# Altium schematic symbol library blackfin_schlib.SchLib: 59 symbols
Pins are listed as number, name and electrical type; pins without a type are passive.

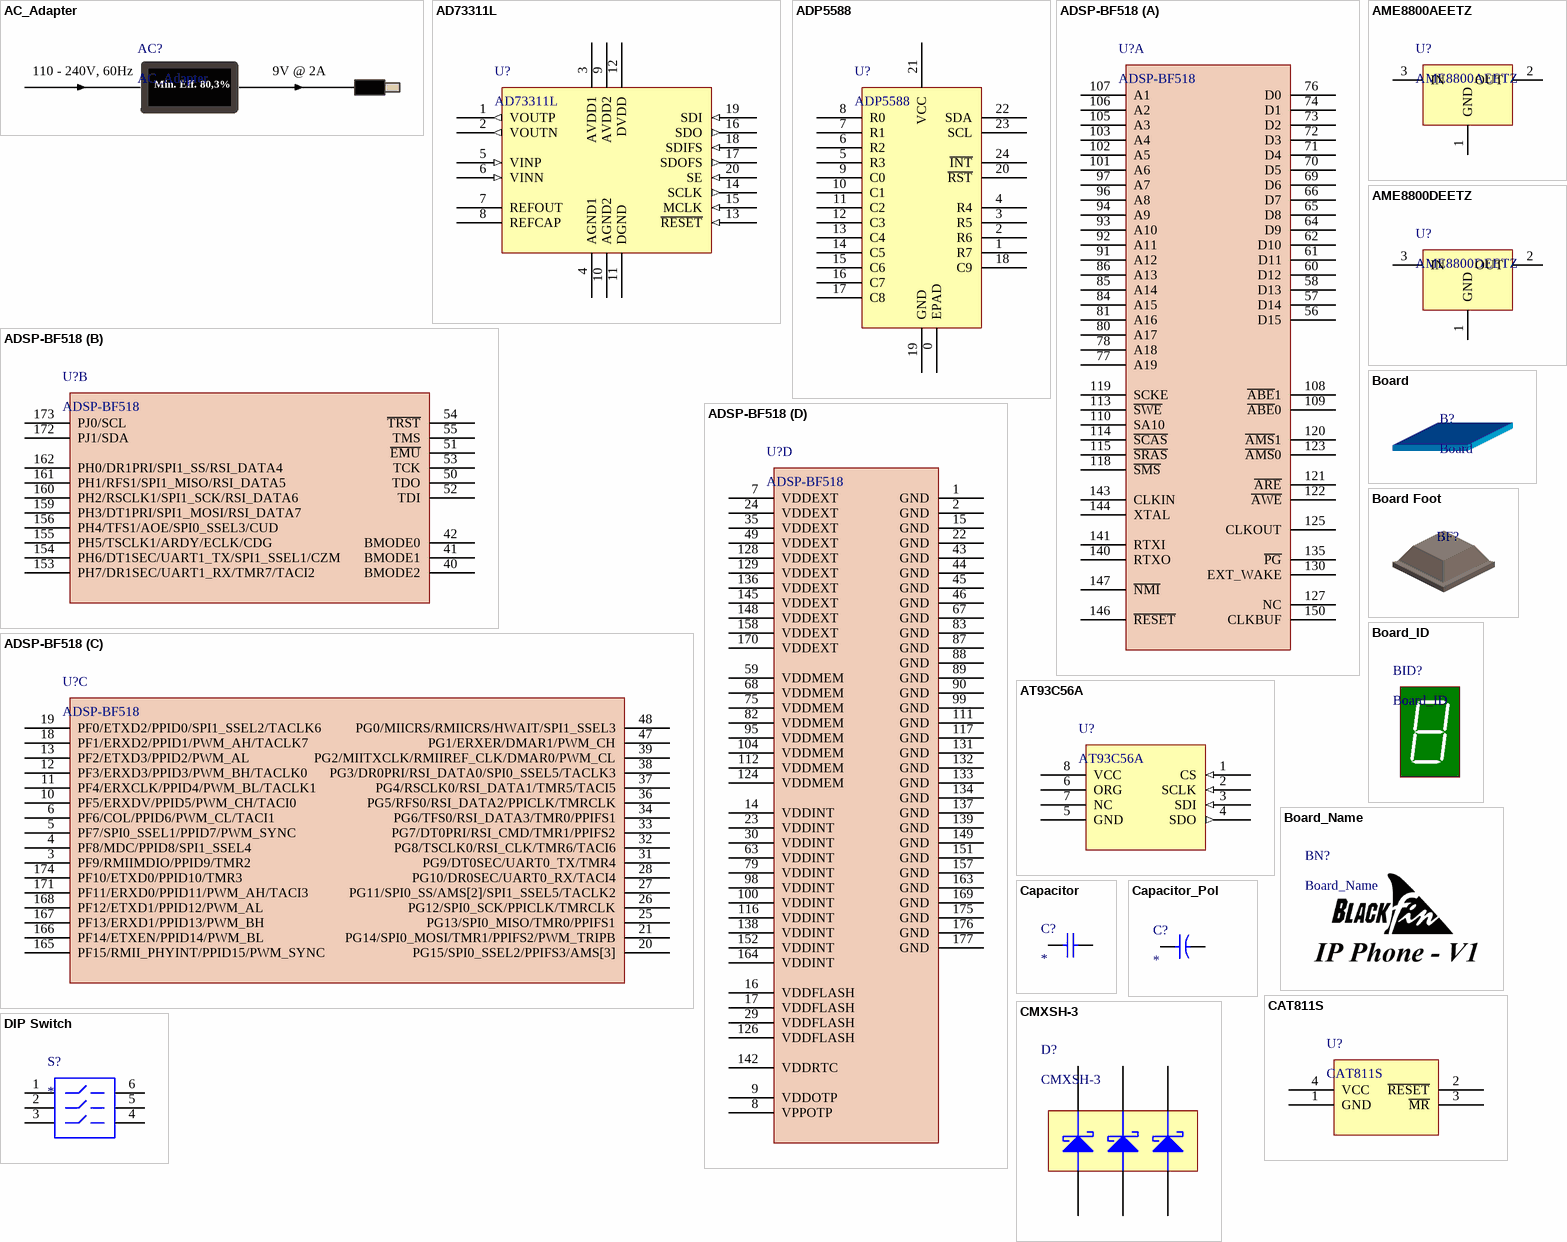
[diagram p0: symbols AC_Adapter to DIP Switch]

## AC_Adapter
designator AC?
eVendorPart#: 552-PSA-A18U-090; Part#: PSAA18U-090-R; Manufacturer: Phihong; eVendor: Mouser; eVendorPrice: 17,73; MSRP: 14,27; MOQ: 1000
text: 110 - 240V, 60Hz; 9V @ 2A; Min. Eff. 80,3%

## AD73311L
designator U?
eVendorPart#: AD73311LARUZ; Manufacturer: Analog Devices; eVendor: Avnet; MSRP: 3,41; eVendorPrice: 3,60; Part#: AD73311LARUZ; MOQ: 1000
footprint TSSOP-20 (AD73311LARUZ)
pins: 1 VOUTP (out), 2 VOUTN (out), 3 AVDD1 (power), 4 AGND1 (power), 5 VINP (in), 6 VINN (in), 7 REFOUT (power), 8 REFCAP (power), 9 AVDD2 (power), 10 AGND2 (power), 11 DGND (power), 12 DVDD (power), 13 ~{RESET} (in), 14 SCLK (out), 15 MCLK (in), 16 SDO (out), 17 SDOFS (out), 18 SDIFS (in), 19 SDI (in), 20 SE (in)

## ADP5588
designator U?
eVendorPart#: ADP5588ACPZ-R7CT-ND; Part#: ADP5588ACPZ-R7; Manufacturer: Analog Devices; eVendor: Digikey; MSRP: 1,56; eVendorPrice: 2,70; MOQ: 1000
footprint QFN-24 (ADP5588)
pins: 0 EPAD, 1 R7, 2 R6, 3 R5, 4 R4, 5 R3, 6 R2, 7 R1, 8 R0, 9 C0, 10 C1, 11 C2, 12 C3, 13 C4, 14 C5, 15 C6, 16 C7, 17 C8, 18 C9, 19 GND, 20 ~{RST}, 21 VCC, 22 SDA, 23 SCL, 24 ~{INT}

## ADSP-BF518
designator U?
eVendorPart#: ADSP-BF518BSWZ-4; eVendor: Analog Devices; eVendorPrice: 13,76; MSRP: 13,07; Part#: ADSP-BF518BSWZ-4; Manufacturer: Analog Devices; MOQ: 1000
footprint LQFP-176 (ADSP-BF518)
part A pins: 56 D15, 57 D14, 58 D13, 60 D12, 61 D11, 62 D10, 64 D9, 65 D8, 66 D7, 69 D6, 70 D5, 71 D4, 72 D3, 73 D2, 74 D1, 76 D0, 77 A19, 78 A18, 80 A17, 81 A16, 84 A15, 85 A14, 86 A13, 91 A12, 92 A11, 93 A10, 94 A9, 96 A8, 97 A7, 101 A6, 102 A5, 103 A4, 105 A3, 106 A2, 107 A1, 108 ~{ABE}1, 109 ~{ABE}0, 110 SA10, 113 ~{SWE}, 114 ~{SCAS}, 115 ~{SRAS}, 118 ~{SMS}, 119 SCKE, 120 ~{AMS}1, 121 ~{ARE}, 122 ~{AWE}, 123 ~{AMS}0, 125 CLKOUT, 127 NC, 130 EXT_WAKE, 135 ~{PG}, 140 RTXO, 141 RTXI, 143 CLKIN, 144 XTAL, 146 ~{RESET}, 147 ~{NMI}, 150 CLKBUF
part B pins: 40 BMODE2, 41 BMODE1, 42 BMODE0, 50 TDO, 51 ~{EMU}, 52 TDI, 53 TCK, 54 ~{TRST}, 55 TMS, 153 PH7/DR1SEC/UART1_RX/TMR7/TACI2, 154 PH6/DT1SEC/UART1_TX/SPI1_SSEL1/CZM, 155 PH5/TSCLK1/ARDY/ECLK/CDG, 156 PH4/TFS1/AOE/SPI0_SSEL3/CUD, 159 PH3/DT1PRI/SPI1_MOSI/RSI_DATA7, 160 PH2/RSCLK1/SPI1_SCK/RSI_DATA6, 161 PH1/RFS1/SPI1_MISO/RSI_DATA5, 162 PH0/DR1PRI/SPI1_SS/RSI_DATA4, 172 PJ1/SDA, 173 PJ0/SCL
part C pins: 3 PF9/RMIIMDIO/PPID9/TMR2, 4 PF8/MDC/PPID8/SPI1_SSEL4, 5 PF7/SPI0_SSEL1/PPID7/PWM_SYNC, 6 PF6/COL/PPID6/PWM_CL/TACI1, 10 PF5/ERXDV/PPID5/PWM_CH/TACI0, 11 PF4/ERXCLK/PPID4/PWM_BL/TACLK1, 12 PF3/ERXD3/PPID3/PWM_BH/TACLK0, 13 PF2/ETXD3/PPID2/PWM_AL, 18 PF1/ERXD2/PPID1/PWM_AH/TACLK7, 19 PF0/ETXD2/PPID0/SPI1_SSEL2/TACLK6, 20 PG15/SPI0_SSEL2/PPIFS3/AMS[3], 21 PG14/SPI0_MOSI/TMR1/PPIFS2/PWM_TRIPB, 25 PG13/SPI0_MISO/TMR0/PPIFS1, 26 PG12/SPI0_SCK/PPICLK/TMRCLK, 27 PG11/SPI0_SS/AMS[2]/SPI1_SSEL5/TACLK2, 28 PG10/DR0SEC/UART0_RX/TACI4, 31 PG9/DT0SEC/UART0_TX/TMR4, 32 PG8/TSCLK0/RSI_CLK/TMR6/TACI6, 33 PG7/DT0PRI/RSI_CMD/TMR1/PPIFS2, 34 PG6/TFS0/RSI_DATA3/TMR0/PPIFS1, 36 PG5/RFS0/RSI_DATA2/PPICLK/TMRCLK, 37 PG4/RSCLK0/RSI_DATA1/TMR5/TACI5, 38 PG3/DR0PRI/RSI_DATA0/SPI0_SSEL5/TACLK3, 39 PG2/MIITXCLK/RMIIREF_CLK/DMAR0/PWM_CL, 47 PG1/ERXER/DMAR1/PWM_CH, 48 PG0/MIICRS/RMIICRS/HWAIT/SPI1_SSEL3, 165 PF15/RMII_PHYINT/PPID15/PWM_SYNC, 166 PF14/ETXEN/PPID14/PWM_BL, 167 PF13/ERXD1/PPID13/PWM_BH, 168 PF12/ETXD1/PPID12/PWM_AL, 171 PF11/ERXD0/PPID11/PWM_AH/TACI3, 174 PF10/ETXD0/PPID10/TMR3
part D pins: 1 GND, 2 GND, 7 VDDEXT, 8 VPPOTP, 9 VDDOTP, 14 VDDINT, 15 GND, 16 VDDFLASH, 17 VDDFLASH, 22 GND, 23 VDDINT, 24 VDDEXT, 29 VDDFLASH, 30 VDDINT, 35 VDDEXT, 43 GND, 44 GND, 45 GND, 46 GND, 49 VDDEXT, 59 VDDMEM, 63 VDDINT, 67 GND, 68 VDDMEM, 75 VDDMEM, 79 VDDINT, 82 VDDMEM, 83 GND, 87 GND, 88 GND, 89 GND, 90 GND, 95 VDDMEM, 98 VDDINT, 99 GND, 100 VDDINT, 104 VDDMEM, 111 GND, 112 VDDMEM, 116 VDDINT, 117 GND, 124 VDDMEM, 126 VDDFLASH, 128 VDDEXT, 129 VDDEXT, 131 GND, 132 GND, 133 GND, 134 GND, 136 VDDEXT, 137 GND, 138 VDDINT, 139 GND, 142 VDDRTC, 145 VDDEXT, 148 VDDEXT, 149 GND, 151 GND, 152 VDDINT, 157 GND, 158 VDDEXT, 163 GND, 164 VDDINT, 169 GND, 170 VDDEXT, 175 GND, 176 GND, 177 GND

## AME8800AEETZ
designator U?
eVendorPart#: 827-AME8800AEETZ; Manufacturer: AME; eVendor: Mouser; eVendorPrice: 0,67; MSRP: 0,171; MOQ: 1000; Part#: AME8800AEETZ
footprint SOT-23 (AME8800AEETZ)
pins: 1 GND, 2 OUT, 3 IN

## AME8800DEETZ
designator U?
eVendorPart#: 827-AME8800DEETZ; Manufacturer: AME; eVendor: Mouser; eVendorPrice: 0,67; MSRP: 0,171; MOQ: 1000; Part#: AME8800DEETZ
footprint SOT-23 (AME8800AEETZ)
pins: 1 GND, 2 OUT, 3 IN

## AT93C56A
designator U?
eVendorPart#: 556-A93C56A10SU2.7; Manufacturer: Atmel; Part#: AT93C56A-10SU-2.7; eVendor: Mouser; eVendorPrice: 0,42; MSRP: 0,24; MOQ: 1000
footprint SOIC-8 (AT93C56A) (AT93C56A)
pins: 1 CS (in), 2 SCLK (in), 3 SDI (in), 4 SDO (out), 5 GND (power), 6 ORG, 7 NC, 8 VCC (power)

## Board
designator B?
eVendor: *; eVendorPart#: *; Part#: *; eVendorPrice: *; MOQ: *; MSRP: *; Manufacturer: *

## Board Foot
designator BF?  (value not drawn)
eVendorPart#: 517-SJ-5003BK; Part#: SJ-5003 (BLACK); Manufacturer: 3M Electronic Specialty; eVendorPrice: 0,18; eVendor: Mouser; MSRP: 0,07; MOQ: 1000
footprint Board Foot (Hemisphere) (Board Foot)

## Board_ID
designator BID?
eVendor: NÃO SE APLICA; eVendorPrice: 0,00; eVendorPart#: NÃO SE APLICA; Part#: NÃO SE APLICA; Manufacturer: NÃO SE APLICA; MOQ: 1000; MSRP: 0,00
footprint BOARD_ID

## Board_Name
designator BN?
eVendor: NÃO SE APLICA; eVendorPrice: 0,00; eVendorPart#: NÃO SE APLICA; Manufacturer: NÃO SE APLICA; MOQ: 1000; MSRP: 0,00; Part#: NÃO SE APLICA
footprint LOGO

## Capacitor
designator C?
eVendor: *; eVendorPart#: *; eVendorPrice: *; Manufacturer: *; Part#: *; MOQ: *; MSRP: *
footprint C_0402
footprint C_0603
footprint C_0805
pins: 1, 2

## Capacitor_Pol
designator C?
eVendor: *; eVendorPart#: *; Part#: *; eVendorPrice: *; MOQ: *; Manufacturer: *; MSRP: *
footprint C_Case_A
footprint C_Case_Y (T520Y477M006ATE015)
pins: 1, 2

## CAT811S
designator U?
Part#: CAT811STBI-GT3; Manufacturer: ON Semiconductor; eVendorPart#: 698-CAT811STBI-GT3; eVendor: Mouser; eVendorPrice: 0,22; MSRP: 0,156; MOQ: 1000
footprint SOT-143 (CAT811S)
pins: 1 GND, 2 ~{RESET}, 3 ~{MR}, 4 VCC

## CMXSH-3
designator D?
eVendorPart#: 610-CMXSH-3; Manufacturer: Central Semiconductor; eVendorPrice: 0,33; MSRP: 0,20; eVendor: Mouser; MOQ: 1000; Part#: CMXSH-3
footprint SOT-26 (CMXSH-3)
pins: 1 A1, 2 A2, 3 A3, 4 K3, 5 K2, 6 K1

## DIP Switch
designator S?
eVendorPart#: 611-SDA03H1SBD; Manufacturer: C&K Components; Part#: SDA03H1SBD; eVendor: Mouser; eVendorPrice: 1,21; MSRP: 0,73; MOQ: 1000
footprint DIP Switch
pins: 1, 2, 3, 4, 5, 6

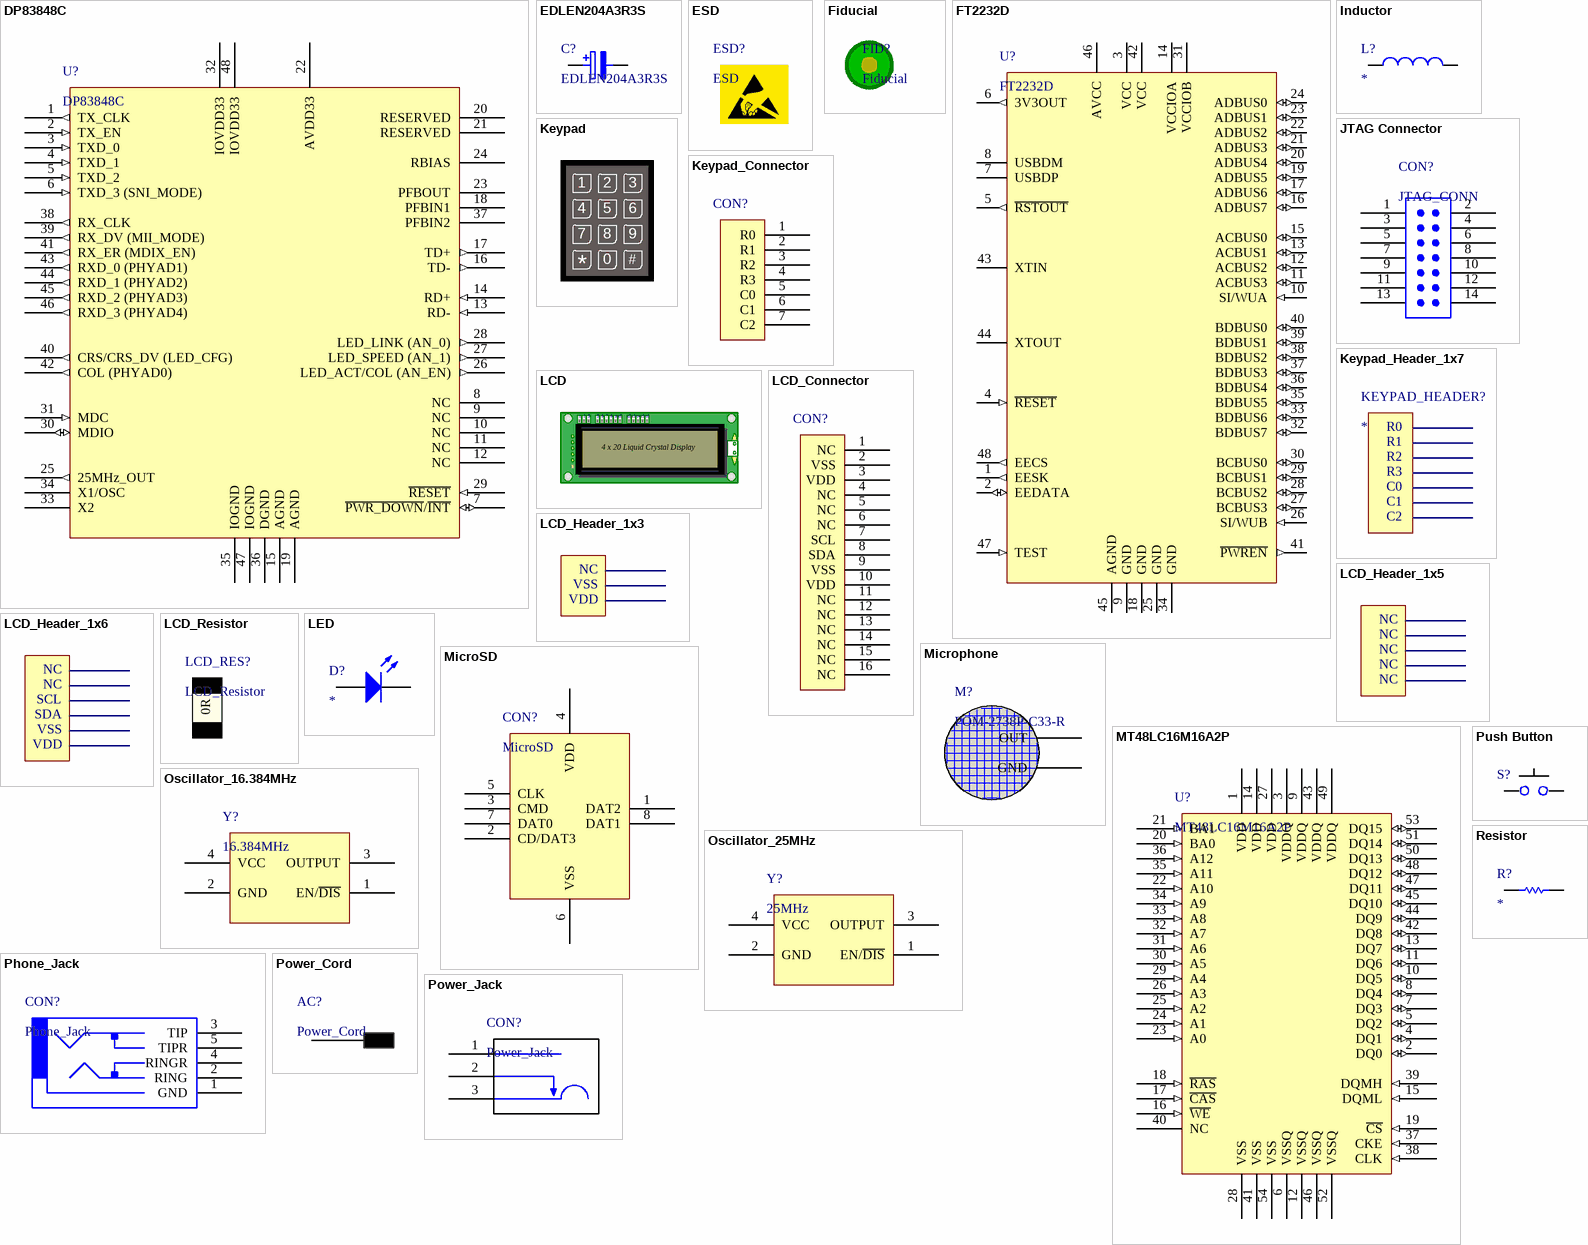
[diagram p1: symbols DP83848C to Resistor]

## DP83848C
designator U?
Manufacturer: National Semiconductor; Part#: DP83848CVV/NOPB; eVendorPart#: DP83848CVV-ND; eVendor: Digikey; MSRP: 3,672; eVendorPrice: 6,8; MOQ: 1000
footprint LQFP-48 (DP83848C, FT2232D)
pins: 1 TX_CLK (out), 2 TX_EN (in), 3 TXD_0 (in), 4 TXD_1 (in), 5 TXD_2 (in), 6 TXD_3 (SNI_MODE) (in), 7 ~{PWR_DOWN}/~{INT} (io), 8 NC, 9 NC, 10 NC, 11 NC, 12 NC, 13 RD- (in), 14 RD+ (in), 15 AGND (power), 16 TD- (out), 17 TD+ (out), 18 PFBIN1, 19 AGND (power), 20 RESERVED, 21 RESERVED, 22 AVDD33 (power), 23 PFBOUT, 24 RBIAS, 25 25MHz_OUT (out), 26 LED_ACT/COL (AN_EN) (out), 27 LED_SPEED (AN_1) (out), 28 LED_LINK (AN_0) (out), 29 ~{RESET} (in), 30 MDIO (io), 31 MDC (in), 32 IOVDD33 (power), 33 X2, 34 X1/OSC, 35 IOGND (power), 36 DGND (power), 37 PFBIN2, 38 RX_CLK (out), 39 RX_DV (MII_MODE) (out), 40 CRS/CRS_DV (LED_CFG) (out), 41 RX_ER (MDIX_EN) (out), 42 COL (PHYAD0) (out), 43 RXD_0 (PHYAD1) (out), 44 RXD_1 (PHYAD2) (out), 45 RXD_2 (PHYAD3) (out), 46 RXD_3 (PHYAD4) (out), 47 IOGND (power), 48 IOVDD33 (power)

## EDLEN204A3R3S
designator C?
eVendorPart#: 598-EDLEN204A3R3S; Manufacturer: Cornell Dubilier; eVendor: Mouser; eVendorPrice: 1,42; MSRP: 0,95; Part#: EDLEN204A3R3S; MOQ: 500
footprint Supercapacitor (EDLEN204A3R3S)
pins: 1, 2

## ESD
designator ESD?  (no BOM)
eVendor: NÃO SE APLICA; eVendorPrice: 0,00; eVendorPart#: NÃO SE APLICA; Part#: NÃO SE APLICA; MOQ: 0,00; MSRP: 0,00; Manufacturer: NÃO SE APLICA
footprint ESD

## Fiducial
designator FID?
eVendorPart#: NÃO SE APLICA; MSRP: 0,00; Manufacturer: NÃO SE APLICA; MOQ: 1000; Part#: NÃO SE APLICA; eVendor: NÃO SE APLICA; eVendorPrice: 0,00
footprint Fiducial

## FT2232D
designator U?
eVendorPart#: 895-FT2232D; Manufacturer: FTDI; eVendor: Mouser; MSRP: 3,80; eVendorPrice: 6,99; Part#: FT2232D; MOQ: 1000
footprint LQFP-48 (DP83848C)
pins: 1 EESK (out), 2 EEDATA (io), 3 VCC (power), 4 ~{RESET} (in), 5 ~{RSTOUT} (out), 6 3V3OUT (out), 7 USBDP, 8 USBDM, 9 GND (power), 10 SI/WUA (in), 11 ACBUS3 (io), 12 ACBUS2 (io), 13 ACBUS1 (io), 14 VCCIOA (power), 15 ACBUS0 (io), 16 ADBUS7 (io), 17 ADBUS6 (io), 18 GND (power), 19 ADBUS5 (io), 20 ADBUS4 (io), 21 ADBUS3 (io), 22 ADBUS2 (io), 23 ADBUS1 (io), 24 ADBUS0 (io), 25 GND (power), 26 SI/WUB (in), 27 BCBUS3 (io), 28 BCBUS2 (io), 29 BCBUS1 (io), 30 BCBUS0 (io), 31 VCCIOB (power), 32 BDBUS7 (io), 33 BDBUS6 (io), 34 GND (power), 35 BDBUS5 (io), 36 BDBUS4 (io), 37 BDBUS3 (io), 38 BDBUS2 (io), 39 BDBUS1 (io), 40 BDBUS0 (io), 41 ~{PWREN} (out), 42 VCC (power), 43 XTIN, 44 XTOUT, 45 AGND (power), 46 AVCC (power), 47 TEST (in), 48 EECS (out)

## Inductor
designator L?
eVendor: *; eVendorPart#: *; eVendorPrice: *; MOQ: *; MSRP: *; Manufacturer: *; Part#: *
footprint L_0402
footprint L_0603
footprint L_0805
footprint Inductor_22uH (744066220)
pins: 1, 2

## JTAG Connector
designator CON?, comment JTAG_CONN
eVendorPart#: 538-15-91-0140; Manufacturer: Molex; eVendor: Mouser; eVendorPrice: 1,00; MSRP: 0,62; MOQ: 1000; Part#: 15-91-0140
footprint HEADER_2x7 (JTAG Connector)
pins: 1 GND, 2 ~{EMU}, 3 NC, 4 GND, 5 BTMS/VDDIO, 6 TMS, 7 BTCK, 8 TCK, 9 ~{BTRST}, 10 ~{TRST}, 11 BTDI, 12 TDI, 13 GND, 14 TDO

## Keypad
designator S?  (value not drawn)
eVendorPart#: GH5009-ND; Part#: 96AB2-152-R; Manufacturer: Grayhill Inc; eVendor: Digikey; eVendorPrice: 12,26; MSRP: 6,6228; MOQ: 1000
footprint Keypad
text: 1; 2; 3; 4; 5; 6; 7; 8; 9; 0; #

## Keypad_Connector
designator CON?  (value not drawn)
eVendorPart#: SSM-107-L-SV; Manufacturer: Samtec; eVendor: Techso; eVendorPrice: 0,881; MSRP: 0,729; MOQ: 1000; Part#: SSM-107-L-SV
footprint SOCKET_1x7 (Keypad_Connector)
pins: 1 R0, 2 R1, 3 R2, 4 R3, 5 C0, 6 C1, 7 C2

## Keypad_Header_1x7
designator KEYPAD_HEADER?
eVendorPart#: ESQ-107-34-L-S; Manufacturer: Samtec; eVendor: Techso; eVendorPrice: 0,916; MSRP: 0,756; MOQ: 1000; Part#: ESQ-107-34-L-S
text: R0; R1; R2; R3; C0; C1; C2

## LCD
designator LCD?  (value not drawn)
eVendorPart#: 763-0420D3Z-FL-GBW; Part#: NHD-0420D3Z-FL-GBW; Manufacturer: Newhaven; eVendor: Mouser; MSRP: 25,60; eVendorPrice: 31,75; MOQ: 1000
footprint LCD
text: 1; 2; 3; 5; 6; 7; 8; 9; 10; 12; 13; 14; 15; 16; 4 x 20 Liquid Crystal Display

## LCD_Connector
designator CON?  (value not drawn)
eVendorPart#: SSM-116-L-SV; Manufacturer: Samtec; eVendor: Techso; eVendorPrice: 1,55; MSRP: 1,29; MOQ: 1000; Part#: SSM-116-L-SV
footprint SOCKET_1x16 (LCD_Connector)
pins: 1 NC, 2 VSS, 3 VDD, 4 NC, 5 NC, 6 NC, 7 SCL, 8 SDA, 9 VSS, 10 VDD, 11 NC, 12 NC, 13 NC, 14 NC, 15 NC, 16 NC

## LCD_Header_1x3
designator LCD_HEADER?  (value not drawn)
eVendorPart#: DW-03-12-F-S-694; Manufacturer: Samtec; eVendor: Techso; eVendorPrice: 0,173; MSRP: 0,144; MOQ: 1000; Part#: DW-03-12-F-S-694
text: NC; VSS; VDD

## LCD_Header_1x5
designator LCD_HEADER?  (value not drawn)
eVendorPart#: DW-05-12-F-S-694; Manufacturer: Samtec; eVendor: Techso; eVendorPrice: 0,289; MSRP: 0,239; MOQ: 1000; Part#: DW-05-12-F-S-694
text: NC

## LCD_Header_1x6
designator LCD_HEADER?  (value not drawn)
eVendorPart#: DW-06-12-F-S-694; Manufacturer: Samtec; eVendor: Techso; eVendorPrice: 0,347; MSRP: 0,287; MOQ: 1000; Part#: DW-06-12-F-S-694
text: NC; SCL; SDA; VSS; VDD

## LCD_Resistor
designator LCD_RES?
eVendorPart#: 71-CRCW0805-0-E3; Manufacturer: Vishay/Dale; Part#: CRCW08050000Z0EA; eVendor: Mouser; eVendorPrice: 0,05; MSRP: 0,008; MOQ: 1000
text: 0R

## LED
designator D?
eVendorPart#: *; eVendor: *; eVendorPrice: *; MOQ: *; MSRP: *; Manufacturer: *; Part#: *
footprint LED_0603
pins: 1 A, 2 K

## Microphone
designator M?, comment POM-2738P-C33-R
eVendorPart#: 665-POM2738PC33R; Manufacturer: PUI Audio; MSRP: 1,13; eVendorPrice: 1,98; eVendor: Mouser; Part#: POM-2738P-C33-R; MOQ: 1000
footprint Microphone
pins: 1 OUT, 2 GND

## MicroSD
designator CON?
Manufacturer: AVX Corporation; Part#: 045138008010890+; eVendorPart#: 478-4965-1-ND; MSRP: 2,394; eVendorPrice: 3,86; eVendor: Digikey; MOQ: 1000
footprint MICRO_SD
pins: 1 DAT2, 2 CD/DAT3, 3 CMD, 4 VDD, 5 CLK, 6 VSS, 7 DAT0, 8 DAT1

## MT48LC16M16A2P
designator U?
Part#: MT48LC16M16A2P-75:D TR; eVendorPart#: 557-1059-1-ND; Manufacturer: Micron; eVendor: Digikey; eVendorPrice: 10,73; MSRP: 6,6825; MOQ: 1000
footprint TSOP-54
pins: 1 VDD (power), 2 DQ0 (io), 3 VDDQ (power), 4 DQ1 (io), 5 DQ2 (io), 6 VSSQ (power), 7 DQ3 (io), 8 DQ4 (io), 9 VDDQ (power), 10 DQ5 (io), 11 DQ6 (io), 12 VSSQ (power), 13 DQ7 (io), 14 VDD (power), 15 DQML (in), 16 ~{WE} (in), 17 ~{CAS} (in), 18 ~{RAS} (in), 19 ~{CS} (in), 20 BA0 (in), 21 BA1 (in), 22 A10 (in), 23 A0 (in), 24 A1 (in), 25 A2 (in), 26 A3 (in), 27 VDD (power), 28 VSS (power), 29 A4 (in), 30 A5 (in), 31 A6 (in), 32 A7 (in), 33 A8 (in), 34 A9 (in), 35 A11 (in), 36 A12 (in), 37 CKE (in), 38 CLK (in), 39 DQMH (in), 40 NC, 41 VSS (power), 42 DQ8 (io), 43 VDDQ (power), 44 DQ9 (io), 45 DQ10 (io), 46 VSSQ (power), 47 DQ11 (io), 48 DQ12 (io), 49 VDDQ (power), 50 DQ13 (io), 51 DQ14 (io), 52 VSSQ (power), 53 DQ15 (io), 54 VSS (power)

## Oscillator_16.384MHz
designator Y?, comment 16.384MHz
eVendorPart#: 695-CSX750FBC-163; Part#: CSX750FBC-16.384M-UT; Manufacturer: Citizen; eVendor: Mouser; eVendorPrice: 2,98; MSRP: 1,20; MOQ: 1000
footprint OSC_16.384MHz
pins: 1 EN/~{DIS}, 2 GND, 3 OUTPUT, 4 VCC

## Oscillator_25MHz
designator Y?, comment 25MHz
eVendorPart#: 815-ASV-25-EJ-T; Part#: ASV-25.000MHZ-EJ-T; Manufacturer: ABRACON; eVendor: Mouser; eVendorPrice: 2,89; MSRP: 1,12; MOQ: 1000
footprint OSC_25MHz
pins: 1 EN/~{DIS}, 2 GND, 3 OUTPUT, 4 VCC

## Phone_Jack
designator CON?
eVendorPart#: CP1-2535SJCT-ND; Manufacturer: CUI Inc; Part#: SJ1-2535-SMT; eVendorPrice: 0,75; eVendor: Digikey; MSRP: 0,415; MOQ: 1000
footprint Phone_Jack
pins: 1 GND, 2 RING, 3 TIP, 4 RINGR, 5 TIPR

## Power_Cord
designator AC?
eVendorPart#: 693-6009.1315; Part#: 6009.1315; Manufacturer: Schurter; eVendor: Mouser; eVendorPrice: 6,74; MSRP: 4,77; MOQ: 1000

## Power_Jack
designator CON?
eVendorPart#: 163-179PH-EX; Manufacturer: Kobiconn; eVendor: Mouser; MSRP: 0,51; eVendorPrice: 0,87; MOQ: 1000; Part#: 163-179PH-EX
footprint Power_Jack
pins: 1, 2, 3

## Push Button
designator S?  (value not drawn)
eVendorPart#: 611-PTS645SH50SMTRLF; Part#: PTS645SH50SMTRLFS; Manufacturer: C&K Components; eVendor: Mouser; MSRP: 0,135; eVendorPrice: 0,27; MOQ: 500
footprint Push Button
pins: 1, 2

## Resistor
designator R?
eVendor: *; eVendorPart#: *; Part#: *; eVendorPrice: *; Manufacturer: *; MOQ: *; MSRP: *
footprint R_0402
footprint R_0603
footprint R_0805
footprint R_2512
footprint R_1206
pins: 1, 2

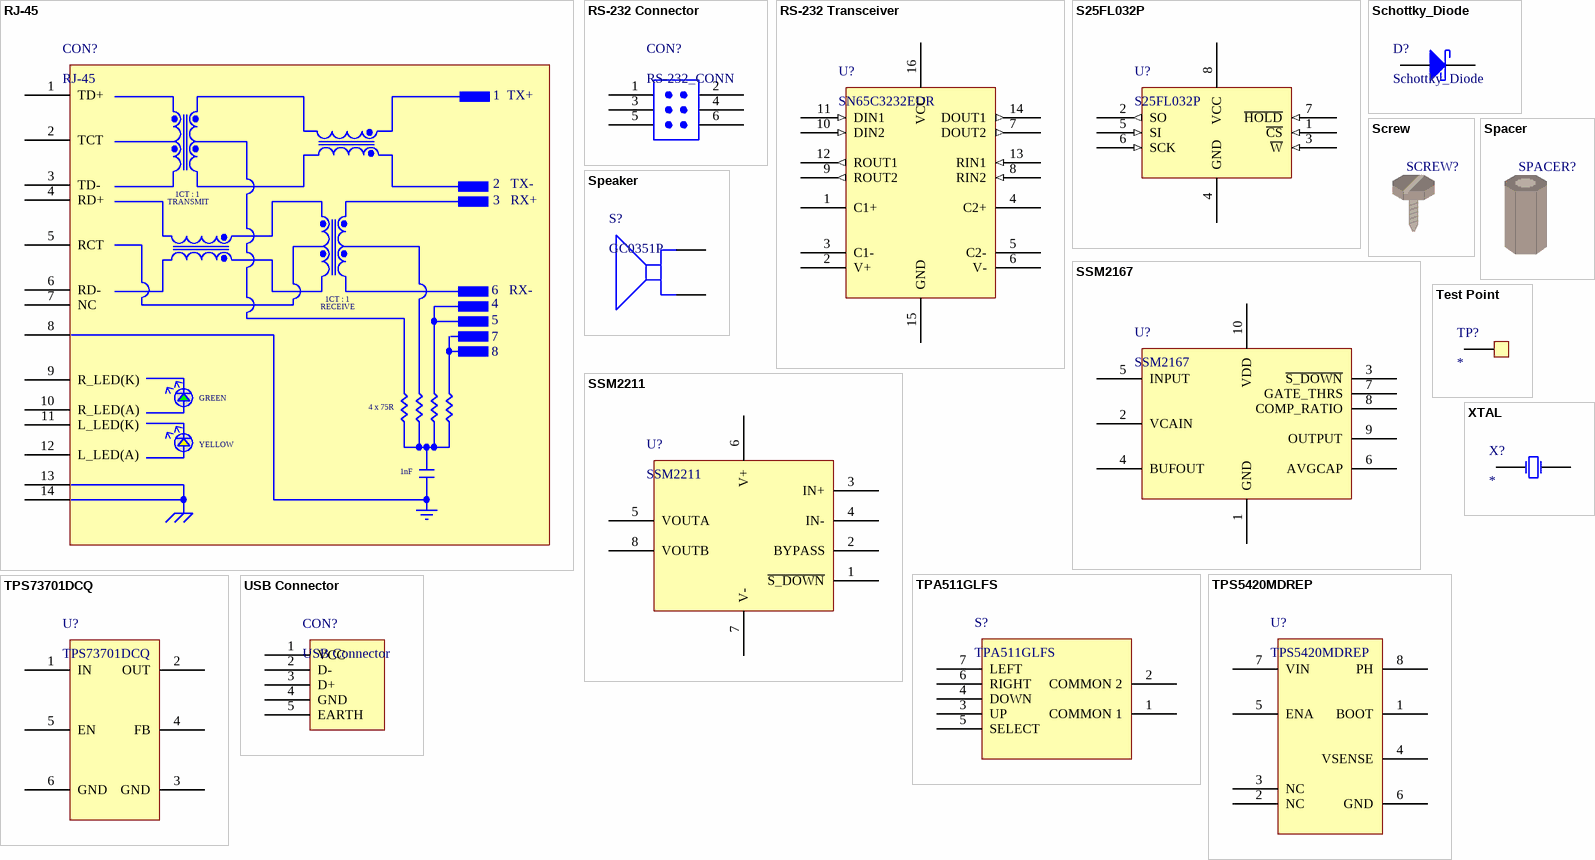
[diagram p2: symbols RJ-45 to XTAL]

## RJ-45
designator CON?
eVendorPart#: 673-J1012F01C; Part#: J1012F01C; Manufacturer: Pulse; eVendor: Mouser; eVendorPrice: 7,86; MSRP: 3,86; MOQ: 1000
footprint RJ-45
pins: 1 TD+, 2 TCT, 3 TD-, 4 RD+, 5 RCT, 6 RD-, 7 NC, 8 GND, 9 R_LED(K), 10 R_LED(A), 11 L_LED(K), 12 L_LED(A), 13 GND, 14 GND
text: 1  TX+; 2   TX-; 1CT : 1; TRANSMIT; 3   RX+; 6   RX-; RECEIVE; GREEN; 4 x 75R; YELLOW; 1nF

## RS-232 Connector
designator CON?, comment RS-232_CONN
Part#: 87759-0614; eVendorPart#: 538-87759-0614; Manufacturer: Molex; eVendor: Mouser; eVendorPrice: 0,62; MSRP: 0,48; MOQ: 1000
footprint Header_2x3 (RS-232 Connector)
pins: 1 TX, 2 RX, 3 NC, 4 NC, 5 GND, 6 GND

## RS-232 Transceiver
designator U?, comment SN65C3232EDR
eVendorPart#: 595-SN65C3232EDR; Manufacturer: Texas Instruments; eVendor: Mouser; MSRP: 0,932; eVendorPrice: 1,41; Part#: SN65C3232EDR; MOQ: 1000
footprint SOIC-16
pins: 1 C1+ (power), 2 V+ (power), 3 C1- (power), 4 C2+ (power), 5 C2- (power), 6 V- (power), 7 DOUT2 (out), 8 RIN2 (in), 9 ROUT2 (out), 10 DIN2 (in), 11 DIN1 (in), 12 ROUT1 (out), 13 RIN1 (in), 14 DOUT1 (out), 15 GND (power), 16 VCC (power)

## S25FL032P
designator U?
Part#: S25FL032P0XMFI010; Manufacturer: Spansion; eVendor: Avnet; eVendorPrice: 1,63; MSRP: 1,61; eVendorPart#: S25FL032P0XMFI010; MOQ: 1000
footprint SO-8 (S25FL032P0XMFI010)
pins: 1 ~{CS} (in), 2 SO (out), 3 ~{W} (in), 4 GND (power), 5 SI (in), 6 SCK (in), 7 ~{HOLD} (in), 8 VCC (power)

## Schottky_Diode
designator D?
eVendorPart#: 863-MBRS330T3G; Part#: MBRS330T3G; Manufacturer: ON Semiconductor; eVendorPrice: 0,37; MSRP: 0,17; eVendor: Mouser; MOQ: 1000
footprint Case_430 (MBRS330T3G)
pins: 1 A, 2 K

## Screw
designator SCREW?  (value not drawn)
eVendorPart#: 534-29301; Part#: 29301; Manufacturer: Keystone Electronics; eVendor: Mouser; eVendorPrice: 0,28; MSRP: 0,14; MOQ: 1000

## Spacer
designator SPACER?  (value not drawn)
eVendorPart#: 534-24428; Manufacturer: Keystone Electronics; Part#: 24428; eVendor: Mouser; eVendorPrice: 0,60; MSRP: 0,30; MOQ: 1000

## Speaker
designator S?, comment GC0351P
eVendorPart#: GC0351P-3-ND; Part#: GC0351P-3; Manufacturer: CUI Inc; eVendor: Digikey; eVendorPrice: 4,98; MSRP: 2,65267; MOQ: 1000
footprint Speaker
pins: 1 CKT1, 2 CKT2

## SSM2167
designator U?
eVendorPart#: SSM2167-1RMZ-REELCT-ND; Manufacturer: Analog Devices; Part#: SSM2167-1RMZ-REEL; eVendor: Digikey; eVendorPrice: 2,34; MSRP: 1,352; MOQ: 1000
footprint MSOP-10 (SSM2167)
pins: 1 GND, 2 VCAIN, 3 ~{S_DOWN}, 4 BUFOUT, 5 INPUT, 6 AVGCAP, 7 GATE_THRS, 8 COMP_RATIO, 9 OUTPUT, 10 VDD

## SSM2211
designator U?
eVendorPart#: SSM2211SZ-ND; Part#: SSM2211SZ; Manufacturer: Analog Devices; eVendor: Digikey; eVendorPrice: 1,23; MSRP: 0,574; MOQ: 1000
footprint SOIC-8 (SSM2211) (SSM2211)
pins: 1 ~{S_DOWN}, 2 BYPASS, 3 IN+, 4 IN-, 5 VOUTA, 6 V+, 7 V-, 8 VOUTB

## Test Point
designator TP?
eVendor: NÃO SE APLICA; eVendorPrice: 0,00; eVendorPart#: NÃO SE APLICA; Part#: NÃO SE APLICA; Manufacturer: NÃO SE APLICA; MOQ: 1000; MSRP: 0,00
footprint Test Point
pins: 1

## TPA511GLFS
designator S?
eVendorPart#: 611-TPA511GLFS; Manufacturer: C&K Components; eVendor: Mouser; eVendorPrice: 1,52; MSRP: 0,91; Part#: TPA511GLFS; MOQ: 1000
footprint TPA511GLFS
pins: 1 COMMON 1, 2 COMMON 2, 3 UP, 4 DOWN, 5 SELECT, 6 RIGHT, 7 LEFT

## TPS5420MDREP
designator U?
eVendorPart#: 595-TPS5420MDREP; Manufacturer: Texas Instruments; eVendor: Mouser; eVendorPrice: 5,78; MSRP: 3,61; Part#: TPS5420MDREP; MOQ: 1000
footprint SOIC-8 (TPS5420MDREP) (TPS5420MDREP)
pins: 1 BOOT, 2 NC, 3 NC, 4 VSENSE, 5 ENA, 6 GND, 7 VIN, 8 PH

## TPS73701DCQ
designator U?
eVendorPart#: 595-TPS73701DCQ; Manufacturer: Texas Instruments; eVendor: Mouser; MSRP: 0,845; eVendorPrice: 1,62; Part#: TPS73701DCQ; MOQ: 1000
footprint SOT-223 (TPS73701DCQ)
pins: 1 IN, 2 OUT, 3 GND, 4 FB, 5 EN, 6 GND

## USB Connector
designator CON?
eVendorPart#: 649-61729-0010BLF; Manufacturer: FCI; Part#: 61729-0010BLF; eVendor: Mouser; eVendorPrice: 0,58; MSRP: 0,39; MOQ: 1000
footprint USB Connector
pins: 1 VCC, 2 D-, 3 D+, 4 GND, 5 EARTH

## XTAL
designator X?
eVendor: *; eVendorPrice: *; eVendorPart#: *; Part#: *; MOQ: *; MSRP: *; Manufacturer: *
footprint XTAL_32.768kHz (XTAL)
footprint XTAL_6MHz (XTAL)
pins: 1 OSC1, 2 OSC2